# Altium schematic symbol library HV_Board_Sch_Lib.SchLib: 11 symbols
Pins are listed as number, name and electrical type; pins without a type are passive.

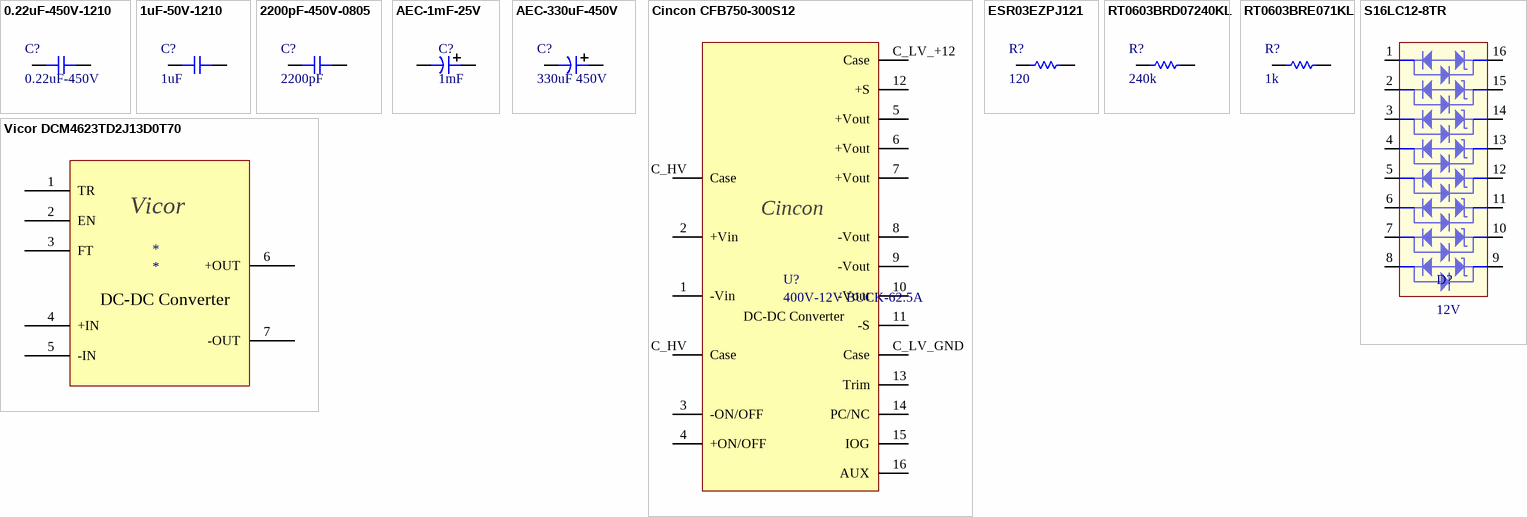
[diagram p0: symbols 0.22uF-450V-1210 to Vicor DCM4623TD2J13D0T70]

## 0.22uF-450V-1210
designator C?, comment 0.22uF-450V
CAP CER 0.22UF 450V X7T 1210; Manufacturer: TDK; Manufacturer Part Number: C3225X7T2W224K200AE; Capacitance: 220nF; Tolerance: 10%; Supplier 1: Digi-Key; RoHS: Yes; Category: Ceramic Capacitors; Stock 1: 22849; Pricing 1: 1=0.90000, 10=0.66200, 50=0.52980, 100=0.45410, 500=0.35948 (USD); Mount: Surface Mount; Case/Package: 1210; Case Code (Imperial): 1210; Case Code (Metric): 3225; Weight: 0.000564oz; Min Operating Temperature: -55°C; Max Operating Temperature: 125°C; Packaging: Tape and Reel; Voltage Rating: 450V; Voltage Rating (DC): 450V; Package Quantity: 1000; Dielectric: X7T; Termination: SMD/SMT; Resistor Type: Ceramic; Features: Soft Termination; Series: C; Length: 3.2mm; Width: 2.5mm; Height: 2mm; Thickness: 0.098inch; Depth: 2.5mm; RoHS Compliant: Yes; ComponentLink1URL: https://datasheet.ciiva.com/24219/c3225x7t2w224k200ae-265393-24219702.pdf?src-supplier=Mouser; ComponentLink1Description: https://datasheet.ciiva.com/24219/c3225x7t2w224k200ae-265393-24219702.pdf?src-supplier=Mouser; Supplier Part Number 1: 445-8909-1-ND
footprint CAPC3025X28N (Chip Capacitor, 2-Leads, Body 3.00x2.50mm, IPC Medium Density)
pins: 1, 2

## 1uF-50V-1210
designator C?, comment 1uF
CAP CER 1UF 50V X7R 1210 CL32B105KBHNNNE; Manufacturer: Samsung; Material: Ceramic; Tolerance: 10%; Supplier 1: Digi-Key; Manufacturer Part Number: CL32B105KBHNNNE; RoHS: Yes; Category: Ceramic Capacitors; Stock 1: 27840; Pricing 1: 1=0.26000, 10=0.17800, 50=0.11900, 100=0.10110, 500=0.07134, 1000=0.06243 (USD); Mount: Surface Mount; Case/Package: 1210; Case Code (Metric): 3225; Case Code (Imperial): 1210; Min Operating Temperature: -55°C; Max Operating Temperature: 125°C; Packaging: Tape and Reel; Package Quantity: 1; Capacitance: 1uF; Voltage Rating: 50V; Dielectric: X7R; Voltage: 50V; Series: CL; Construction: Flat; Length: 3.2mm; Width: 0.098inch; Height: 1.6mm; Thickness: 0.071inch; Depth: 2.5mm; Radiation Hardening: No; RoHS Compliant: Yes; ComponentLink1URL: https://datasheet.ciiva.com/15196/getdatasheetpartid-355242-15196145.pdf?src-supplier=Verical; ComponentLink1Description: https://datasheet.ciiva.com/15196/getdatasheetpartid-355242-15196145.pdf?src-supplier=Verical; ComponentLink2URL: https://datasheet.ciiva.com/29202/451199-da-01-en-vs-kondensator-1210-29202487.pdf?src-supplier=Conrad; ComponentLink2Description: https://datasheet.ciiva.com/29202/451199-da-01-en-vs-kondensator-1210-29202487.pdf?src-supplier=Conrad; ComponentLink3URL: https://datasheet.ciiva.com/16369/cl05b104kq5nnnc-16369702.pdf?src-supplier=Future+Electronics; ComponentLink3Description: https://datasheet.ciiva.com/16369/cl05b104kq5nnnc-16369702.pdf?src-supplier=Future+Electronics; Supplier Part Number 1: 1276-1811-1-ND
footprint CAPC3025X28N (Chip Capacitor, 2-Leads, Body 3.00x2.50mm, IPC Medium Density)
pins: 1, 2

## 2200pF-450V-0805
designator C?, comment 2200pF
Cap Ceramic 0.0022uF 450V C0G 5% Pad SMD 0805 Soft Termination 125C Automotive T/R CGA4F4C0G2W222J085AE; Manufacturer: TDK; Supplier 1: Digi-Key; Manufacturer Part Number: CGA4F4C0G2W222J085AE; RoHS: Yes; Category: Ceramic Capacitors; Stock 1: 9544; Pricing 1: 1=0.51000, 10=0.35600, 50=0.24940, 100=0.21380, 500=0.16038, 1000=0.13543 (USD); RoHS Compliant: Yes; Supplier Part Number 1: 445-175690-1-ND
footprint CAP-0805 (Chip Capacitor, 2-Leads, Body 2.00x1.25mm, IPC Medium Density)
pins: 1, 2

## AEC-1mF-25V
designator C?, comment 1mF
CAP ALUM 1000UF 20% 25V SMD UUG1E102MNQ1MS; Manufacturer: Nichicon; Ripple Current: 820mA; Leakage Current: 10uA; Life (Hours): 2000Hour; Dissipation Factor: 0.16%; Supplier 1: Digi-Key; Manufacturer Part Number: UUG1E102MNQ1MS; RoHS: Yes; Category: Aluminum Electrolytic Capacitors; Stock 1: 77; Pricing 1: 1=1.53000, 10=1.20500, 50=1.04480 (USD); Mount: Surface Mount; Case/Package: Radial; Min Operating Temperature: -40°C; Max Operating Temperature: 85°C; Package Quantity: 1; Voltage Rating: 25V; Voltage Rating (DC): 25V; Tolerance: 20%; Packaging: Tape and Reel; Capacitance: 1mF; Termination: SMD/SMT; Ripple Current (AC): 820mA; Series: UG; Diameter: 12.5mm; Length: 16mm; Height: 16mm; Height - Seated (Max): 0.669inch; REACH SVHC: No SVHC; Lead Free: Contains Lead; RoHS Compliant: Yes; ComponentLink1URL: https://datasheet.ciiva.com/6311/e-ug-6311782.pdf?src-supplier=Digi-Key; ComponentLink1Description: https://datasheet.ciiva.com/6311/e-ug-6311782.pdf?src-supplier=Digi-Key; ComponentLink2URL: https://datasheet.ciiva.com/6311/e-ug-6311783.pdf?src-supplier=Digi-Key; ComponentLink2Description: https://datasheet.ciiva.com/6311/e-ug-6311783.pdf?src-supplier=Digi-Key; Supplier Part Number 1: 493-7421-1-ND
footprint CAPAE146136X170M (Aluminum Electrolytic Capacitor, Body 13.60x13.60x17.00mm, IPC Low Density)
pins: 1 +, 2

## AEC-330uF-450V
designator C?, comment 330uF 450V
Aluminum Electrolytic Capacitors - Snap In 330uF 450V 20% 380LQ331M450A022; Manufacturer: Cornell Dubilier; Dielectric Material: Aluminium; Ripple Current: 2.01A; ESR (Equivalent Series Resistance): 603mR; Life (Hours): 2000Hour; Supplier 1: Digi-Key; Manufacturer Part Number: 380LQ331M450A022; RoHS: Yes; Category: Aluminum Electrolytic Capacitors; Stock 1: 2991; Pricing 1: 1=6.30000, 10=5.67000, 50=4.91400, 100=4.28400, 500=3.52800, 1000=3.27600, 2500=3.21300, 5000=3.19200 (USD); Mount: Through Hole; Case/Package: Radial; Number of Pins: 2; Weight: 1.69315oz; Min Operating Temperature: -25°C; Max Operating Temperature: 85°C; Package Quantity: 40; Capacitance: 330uF; Voltage Rating: 450V; Tolerance: 20%; Packaging: Bulk; Voltage Rating (DC): 450V; Termination: Snap in; Features: General Purpose; Series: 380LQ; Diameter: 35mm; Length: 30mm; Height: 30mm; Height - Seated (Max): 1.181inch; Lead Pitch: 10mm; REACH SVHC: Unknown; Lead Free: Lead Free; RoHS Compliant: Yes; ComponentLink1URL: https://datasheet.ciiva.com/5372/380lq-5372414.pdf?src-supplier=Mouser; ComponentLink1Description: https://datasheet.ciiva.com/5372/380lq-5372414.pdf?src-supplier=Mouser
footprint AEC 380LQ331M450A022
pins: 1 +, 2

## Cincon CFB750-300S12
designator U?, comment 400V-12V BUCK-62.5A
750Watts Full Brick DC-DC Converter Input Voltage 200-425VDC to 12VDC, 62.5A
footprint CFB750-300S12 (Cincon CFB750-300S12 DC-DC Converter)
pins: 1 -Vin, 2 +Vin, 3 -ON/OFF, 4 +ON/OFF, 5 +Vout, 6 +Vout, 7 +Vout, 8 -Vout, 9 -Vout, 10 -Vout, 11 -S, 12 +S, 13 Trim, 14 PC/NC, 15 IOG, 16 AUX, C_HV Case, C_HV Case, C_LV_+12 Case, C_LV_GND Case
text: Cincon; DC-DC Converter

## ESR03EZPJ121
designator R?, comment 120
Res Thick Film 0603 120 Ohm 5% 0.25W(1/4W) ±200ppm/C Epoxy Resin Pad SMD Automotive T/R; Manufacturer: Rohm; Manufacturer Part Number: ESR03EZPJ121; Resistance: 120R; Power Rating: 250mW; Temperature Coefficient: 200ppm/°C; Supplier 1: Avnet; RoHS: Yes; Category: Chip SMD Resistors; Stock 1: 35000; Pricing 1: 5000=0.00936, 10000=0.00886, 20000=0.00835, 30000=0.00784, 40000=0.00734, 50000=0.00683, 500000=0.00633 (USD); Case/Package: 0603; Case Code (Metric): 1608; Case Code (Imperial): 0603; Size Code: 0603; Min Operating Temperature: -55°C; Max Operating Temperature: 155°C; Tolerance: 5%; Package Quantity: 1; Packaging: Tape and Reel; Resistor Type: Thick Film; Number of Terminations: 2; Max Power Dissipation: 250mW; Features: Automotive AEC-Q200; Series: ESR; Length: 0.063inch; Width: 0.031inch; Height: 0.022inch; Lead Free: Lead Free; RoHS Compliant: Yes; ComponentLink1URL: https://datasheet.ciiva.com/2495/esr-2495284.pdf?src-supplier=Digi-Key; ComponentLink1Description: https://datasheet.ciiva.com/2495/esr-2495284.pdf?src-supplier=Digi-Key; ComponentLink2URL: https://datasheet.ciiva.com/2495/esr-2495285.pdf?src-supplier=Digi-Key; ComponentLink2Description: https://datasheet.ciiva.com/2495/esr-2495285.pdf?src-supplier=Digi-Key; ComponentLink3URL: https://datasheet.ciiva.com/2495/esr-2495286.pdf?src-supplier=Digi-Key; ComponentLink3Description: https://datasheet.ciiva.com/2495/esr-2495286.pdf?src-supplier=Digi-Key; Supplier Part Number 1: ESR03EZPJ121
footprint RESC1608X06N (Chip Resistor, 2-Leads, Body 1.60x0.80mm, IPC Medium Density)
pins: 1, 2

## RT0603BRD07240KL
designator R?, comment 240k
Res Thin Film 0603 240K Ohm 0.1% 1/10W ±25ppm/°C Molded SMD SMD Paper T/R; Manufacturer: Yageo; Manufacturer Part Number: RT0603BRD07240KL; Resistance: 240kR; Power Rating: 100mW; Voltage Rating: 75V; Voltage Rating (DC): 50V; Supplier 1: Arrow Electronics; RoHS: Yes; Category: Chip SMD Resistors; Stock 1: 575; Pricing 1: 1=0.29290, 10=0.24440, 25=0.24200, 100=0.09940, 250=0.09840, 500=0.09740 (USD); Case/Package: 0603; Case Code (Metric): 1608; Case Code (Imperial): 0603; Contact Plating: Tin,Matte; Min Operating Temperature: -55°C; Max Operating Temperature: 125°C; Tolerance: 0.1%; Packaging: Tape and Reel; Resistor Type: Thin Film; Number of Terminations: 2; Termination: SMD/SMT; Max Power Dissipation: 100mW; Temperature Coefficient: 25ppm/°C; Features: Moisture Resistant; Series: RT; Length: 0.063inch; Width: 0.031inch; Height: 0.022inch; Radiation Hardening: No; Lead Free: Lead Free; RoHS Compliant: Yes; ComponentLink1URL: https://datasheet.ciiva.com/12725/pyu-rt-1-to-0-05-rohs-l-4-12725717.pdf?src-supplier=Mouser; ComponentLink1Description: https://datasheet.ciiva.com/12725/pyu-rt-1-to-0-05-rohs-l-4-12725717.pdf?src-supplier=Mouser; Supplier Part Number 1: RT0603BRD07240KL
footprint RES-0603 (Chip Resistor, 2-Leads, Body 1.60x0.80mm, IPC Medium Density)
pins: 1, 2

## RT0603BRE071KL
designator R?, comment 1k
Res High precision Thin Film 0603 1K Ohm 0.1% 1/10W ±50ppm/°C Molded SMD Paper T/R; Manufacturer: Yageo; Manufacturer Part Number: RT0603BRE071KL; Resistance: 1kR; Power Rating: 100mW; Voltage Rating (DC): 50V; Supplier 1: Arrow Electronics; RoHS: Yes; Category: Chip SMD Resistors; Stock 1: 2241; Pricing 1: 1=0.37640, 10=0.22610, 25=0.22380, 100=0.10140, 250=0.10040, 500=0.09940, 1000=0.06050 (USD); Case/Package: 0603; Case Code (Metric): 1608; Case Code (Imperial): 0603; Size Code: 0603; Min Operating Temperature: -55°C; Max Operating Temperature: 155°C; Tolerance: 0.1%; Packaging: Tape and Reel; Package Quantity: 5000; Resistor Type: Thin Film; Number of Terminations: 2; Max Power Dissipation: 100mW; Temperature Coefficient: 50ppm/°C; Features: Moisture Resistant; Series: RT; Construction: Rectangular; Length: 0.063inch; Width: 0.031inch; Height: 0.022inch; Depth: 0.8mm; Military Standard: Not; Lead Free: Lead Free; RoHS Compliant: Yes; ComponentLink1URL: https://datasheet.ciiva.com/2584/pyu-rt-1-to-0-05-rohs-l-5-2584317.pdf?src-supplier=Digi-Key; ComponentLink1Description: https://datasheet.ciiva.com/2584/pyu-rt-1-to-0-05-rohs-l-5-2584317.pdf?src-supplier=Digi-Key; Supplier Part Number 1: RT0603BRE071KL
footprint RES-0603 (Chip Resistor, 2-Leads, Body 1.60x0.80mm, IPC Medium Density)
pins: 1, 2

## S16LC12-8TR
designator D?, comment 12V
Pd 300W Vwm 12VCJ 25PFPACKAGE So; Manufacturer: Sangdest Microelectronics; Manufacturer Part Number: S16LC12-8TR; Supplier 1: Digi-Key; RoHS: Yes; Category: TVS Diodes; Stock 1: 2398; Pricing 1: 1=1.40000, 10=1.25100, 100=0.97530, 500=0.80570, 1000=0.63608 (USD); Supplier Part Number 1: 1655-2159-1-ND
footprint 16-SO
pins: 1, 2, 3, 4, 5, 6, 7, 8, 9, 10, 11, 12, 13, 14, 15, 16

## Vicor DCM4623TD2J13D0T70
designator *
footprint Vicor
pins: 1 TR, 2 EN, 3 FT, 4 +IN, 5 -IN, 6 +OUT, 7 -OUT
text: Vicor; DC-DC Converter